# Altium schematic symbol library Mini Circuits.SchLib: 3 symbols
Pins are listed as number, name and electrical type; pins without a type are passive.

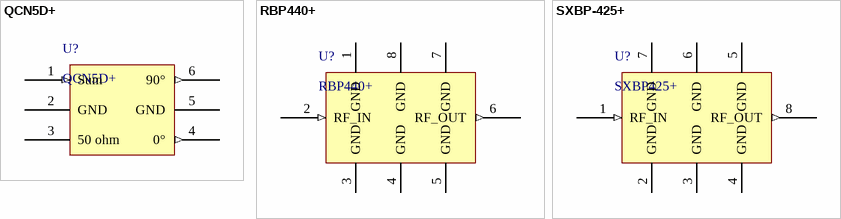
[diagram p0: symbols QCN5D+ to SXBP-425+]

## QCN5D+
designator U?
pins: 1 Sum (in), 2 GND, 3 50 ohm, 4 0° (out), 5 GND, 6 90° (out)

## RBP440+
designator U?
pins: 1 GND, 2 RF_IN (in), 3 GND, 4 GND, 5 GND, 6 RF_OUT (out), 7 GND, 8 GND

## SXBP-425+
designator U?, comment SXBP425+
pins: 1 RF_IN (in), 2 GND, 3 GND, 4 GND, 5 GND, 6 GND, 7 GND, 8 RF_OUT (out)